# Altium footprint library SON(NEW).PcbLib: 10 footprints
Each footprint in its own frame and in the unit in brackets; x right, y up, seen from the top. Pads: shape width x height; smd on the part's side, far side on the other; paste and mask are expansions set on the pad; w line width, h text height; cw(c..) or ccw(c..) is an arc to the next point about the centre after c.
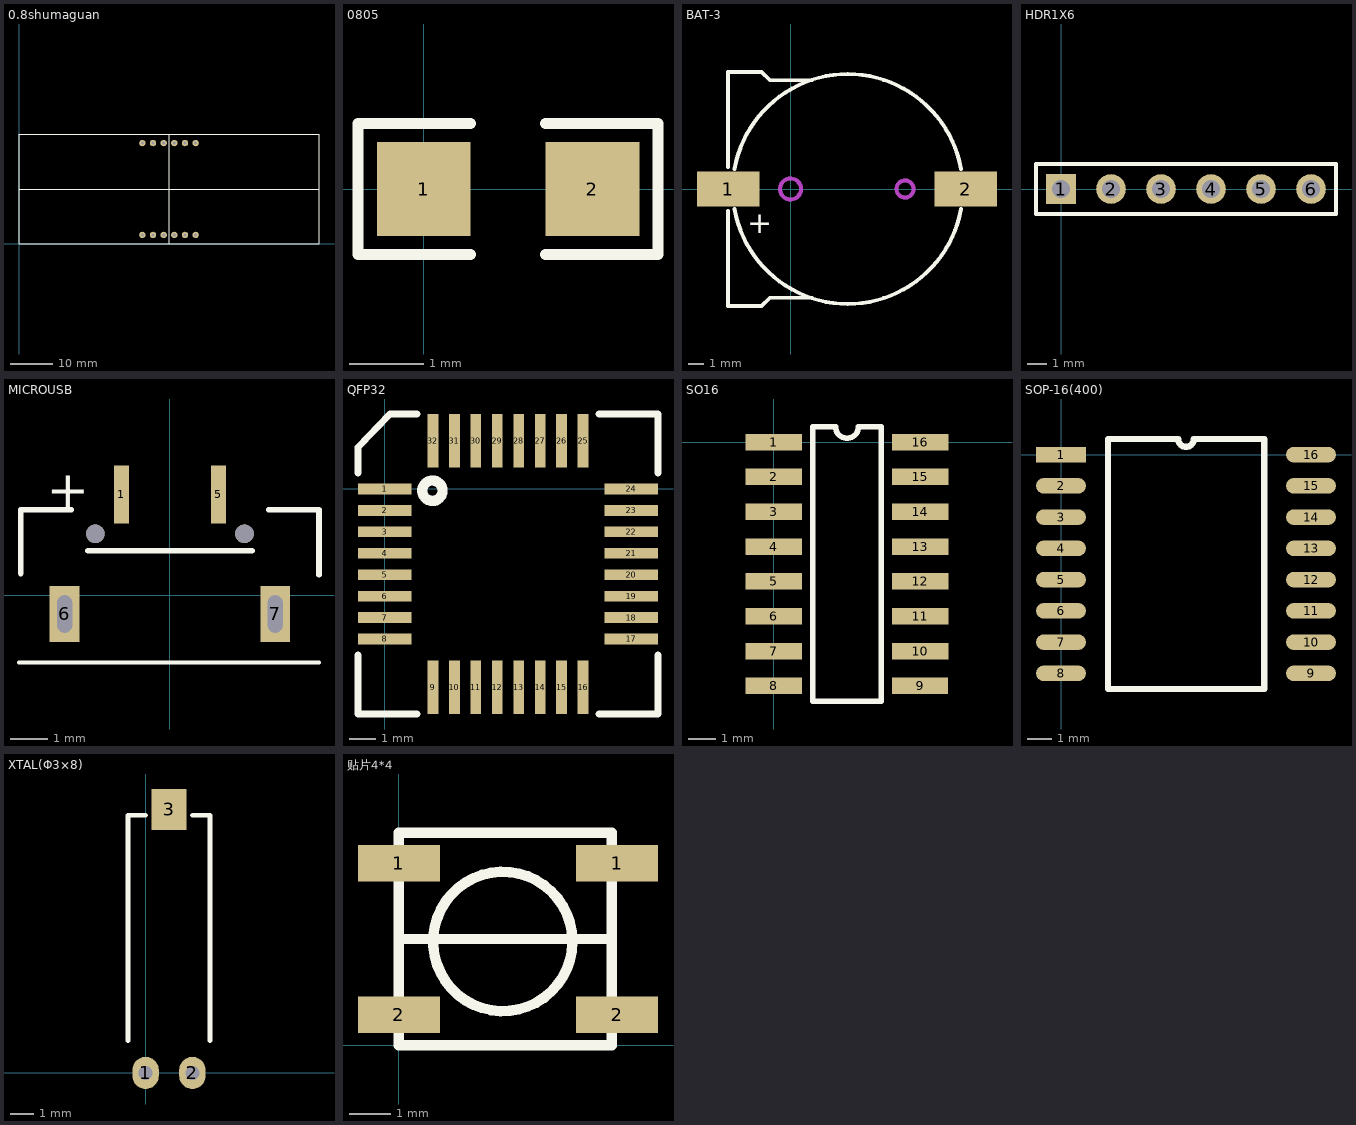
[diagram p0: the footprints below, top view; thin cyan lines are the x and y axes]

## 0.8shumaguan [mil]
pads (12):
  round 60 hole 30: 1(1157.48,80.71) 2(1257.48,80.71) 3(1357.48,80.71) 4(1457.48,80.71) 5(1557.48,80.71) 6(1657.48,80.71) 7(1657.48,942.91) 8(1557.48,942.91) 9(1457.48,942.91) 10(1357.48,942.91) 11(1257.48,942.91) 12(1157.48,942.91)
Top Overlay:
  lines w10: 0,511.81 2814.96,511.81 ; 1407.48,0 1407.48,1023.62 ; 0,0 2814.96,0 2814.96,1023.62 0,1023.62 0,0

## 0805 [mil]
pads (2):
  rect 50x50 smd: 1(0,0) 2(90,0)
Top Overlay:
  lines w5.91: 25,-35 -35,-35 -35,35 25,35 ; 65,-35 125,-35 125,35 65,35

## BAT-3 [mil]
pads (2):
  rect 160x90 smd: 1(-160,0) 2(450,0)
Top Overlay:
  lines w10: -160,-56 -160,-300 -74,-300 -53,-279 50,-279 ; -160,56 -160,300 -74,300 -53,279 50,279 ; -143.52,-51.23 ccw(c147,0) 437.52,-51.23 ; -143.52,51.23 cw(c147,0) 437.52,51.23
  text "+" at -111,-114 h56
Keep-Out Layer:
  circle w10: c294,0 r22
  circle w10: c0,0 r27
Mechanical 1:
  circle w10: c294,0 r22
  circle w10: c0,0 r27

## HDR1X6 [mm] "Connector; Header; 6 Position"
pads (6):
  rect 1.5x1.5 hole 0.9: 1(0,0)
  round 1.5 hole 0.9: 2(2.54,0) 3(5.08,0) 4(7.62,0) 5(10.16,0) 6(12.7,0)
Top Overlay:
  lines w0.2: -1.27,-1.27 -1.27,1.27 13.97,1.27 13.97,-1.27 -1.27,-1.27

## MICROUSB [mm]
pads (6):
  rect 0.4x1.55 smd: 1(-1.3,2.708) 5(1.3,2.708)
  rect 0.8x1.5 hole 0.4 slot 1 at 90 deg: 6(-2.825,-0.5) 7(2.825,-0.5)
  round 0.5 hole 0.5 unplated: ""(-2,1.65) ""(2,1.65)
Top Overlay:
  lines w0.1: -4.05,-1.8 4,-1.8
  lines w0.152: -4,0.584 -4,2.3 -2.65,2.3 ; -2.2,1.2 2.2,1.2 ; 2.65,2.3 4,2.3 4,0.55
  text "+" at -3.3,2.35 h1
Mechanical 1:
  lines w0.127: -3.054,-1.043 -2.596,-1.043 ; -3.054,-1.043 -3.054,0.075 ; -3.054,-1.043 -3.054,0.075 ; -3.054,-1.043 -2.596,-1.043 ; -3.054,0.075 -2.596,0.075 ; -3.054,0.075 -2.596,0.075 ; -2.596,-1.043 -2.596,0.075 ; -2.596,-1.043 -2.596,0.075 ; 2.596,-1.043 2.596,0.075 ; 2.596,-1.043 3.054,-1.043 ; 2.596,-1.043 2.596,0.075 ; 2.596,-1.043 3.054,-1.043 ; 2.596,0.075 3.054,0.075 ; 2.596,0.075 3.054,0.075 ; 3.054,-1.043 3.054,0.075 ; 3.054,-1.043 3.054,0.075
3D body: height 0.1, standoff 0, extent 3.962,-1.6 4.722,0.504
3D body: height 0.1, standoff 0, extent -4.699,-1.6 -3.939,0.504
3D body: height 0.25, standoff 0, extent -3.926,-2.489 3.962,2.328

## QFP32 [mm]
pads (32):
  rect 2x0.4 smd: 1(0,0) 2(0,-0.8) 3(0,-1.6) 4(0,-2.4) 5(0,-3.2) 6(0,-4) 7(0,-4.8) 8(0,-5.6) 17(9.2,-5.6) 18(9.2,-4.8) 19(9.2,-4) 20(9.2,-3.2) 21(9.2,-2.4) 22(9.2,-1.6) 23(9.2,-0.8) 24(9.2,0)
  rect 0.4x2 smd: 9(1.8,-7.4) 10(2.6,-7.4) 11(3.4,-7.4) 12(4.2,-7.4) 13(5,-7.4) 14(5.8,-7.4) 15(6.6,-7.4) 16(7.4,-7.4) 25(7.4,1.8) 26(6.6,1.8) 27(5.8,1.8) 28(5,1.8) 29(4.2,1.8) 30(3.4,1.8) 31(2.6,1.8) 32(1.8,1.8)
Top Overlay:
  circle w0.381: c1.777,-0.063 r0.381
  lines w0.254: -1,-6.2 -1,-8.4 1.2,-8.4 ; -1,0.6 -1,1.556 0.19,2.8 1.2,2.8 ; 8,-8.4 10.2,-8.4 10.2,-6.2 ; 8,2.8 10.2,2.8 10.2,0.6

## SO16 [mm]
pads (16):
  rect 2.05x0.6 smd: 1(0,0) 2(0,-1.27) 3(0,-2.54) 4(0,-3.81) 5(0,-5.08) 6(0,-6.35) 7(0,-7.62) 8(0,-8.89) 9(5.342,-8.89) 10(5.35,-7.62) 11(5.35,-6.35) 12(5.35,-5.08) 13(5.35,-3.81) 14(5.35,-2.54) 15(5.35,-1.27) 16(5.35,0)
Top Overlay:
  lines w0.2: 2.258,0.555 ccw(c2.675,0.555) 3.092,0.555
  lines w0.203: 2.258,0.555 1.425,0.555 1.425,-9.445 3.925,-9.445 3.925,0.555 3.092,0.555

## SOP-16(400) [mil]
pads (16):
  rect 80x25 smd: 1(0,0)
  oval 80x25 smd: 2(0,-50) 3(0,-100) 4(0,-150) 5(0,-200) 6(0,-250) 7(0,-300) 8(0,-350) 9(400,-350) 10(400,-300) 11(400,-250) 12(400,-200) 13(400,-150) 14(400,-100) 15(400,-50) 16(400,0)
Top Overlay:
  lines w10: 75,-375 325,-375 325,25 212.5,25 cw(c200,25) 187.5,25 75,25 75,-375

## XTAL(Φ3×8) [mil]
pads (3):
  oval 45x55 hole 24: 1(0,0) 2(80,0)
  rect 60x70 smd: 3(40,450)
Top Overlay:
  lines w8: -30,55 -30,440 0,440 ; 80,440 110,440 110,55

## 贴片4*4 [mm]
pads (4):
  rect 2x0.9 smd: 1(0,4.45) 1(5.334,4.45) 2(0,0.75) 2(5.334,0.75)
Top Overlay:
  circle w0.254: c2.54,2.54 r1.704
  lines w0.254: 0,2.6 5.14,2.6 5.2,2.54 ; 0,0 0,5.2 5.2,5.2 5.2,0 0,0